# Altium schematic symbol library LM2651MTC-ADJ.SchLib: 1 symbol
Pins are listed as number, name and electrical type; pins without a type are passive.

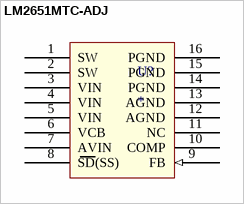
[diagram p0: symbol LM2651MTC-ADJ]

## LM2651MTC-ADJ
designator U?
LM2651MTC-ADJ
pins: 1 SW, 2 SW, 3 VIN (power), 4 VIN (power), 5 VIN (power), 6 VCB, 7 AVIN (power), 8 SD(SS), 9 FB (in), 10 COMP, 11 NC, 12 AGND (power), 13 AGND, 14 PGND, 15 PGND, 16 PGND